# EAGLE library part BMX160 (library otto)
IMU ACCEL/GYRO/MAG
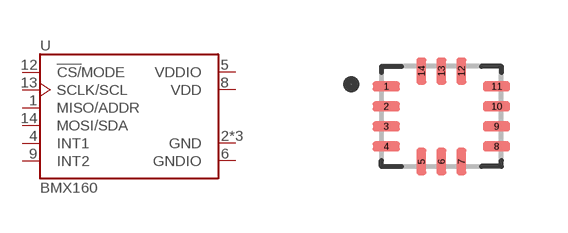
[diagram p4: symbol with the pads of PQFN50P250X300X100-14N; footprint PQFN50P250X300X100-14N]

Designator prefix U

## BMX160 (AVAILABILITY: Unavailable; DESCRIPTION: IMU ACCEL/GYRO/MAG; MF: Bosch Sensortec; MP: BMX160; PACKAGE: VFLGA-14 Bosch Sensortec; PRICE: None)  [PQFN50P250X300X100-14N]
1  MISO/ADDR
2  GND  pwr
3  GND  pwr
4  INT1
5  VDDIO  pwr
6  GNDIO  pwr
7  GND  pwr
8  VDD  pwr
9  INT2
12  !CS/!MODE  in
13  SCLK/SCL  in
14  MOSI/SDA

## Footprint PQFN50P250X300X100-14N (pad centres in mm)
smd 0.68 x 0.25: 1 -1.38,0.75; 2 -1.38,0.25; 3 -1.38,-0.25; 4 -1.38,-0.75; 8 1.38,-0.75; 9 1.38,-0.25; 10 1.38,0.25; 11 1.38,0.75
smd 0.25 x 0.68: 5 -0.5,-1.13; 6 0,-1.13; 7 0.5,-1.13; 12 0.5,1.13; 13 0,1.13; 14 -0.5,1.13